# Altium footprint library Custom_Footprints.PcbLib: 14 footprints
Each footprint in its own frame and in the unit in brackets; x right, y up, seen from the top. Pads: shape width x height; smd on the part's side, far side on the other; paste and mask are expansions set on the pad; w line width, h text height; cw(c..) or ccw(c..) is an arc to the next point about the centre after c.
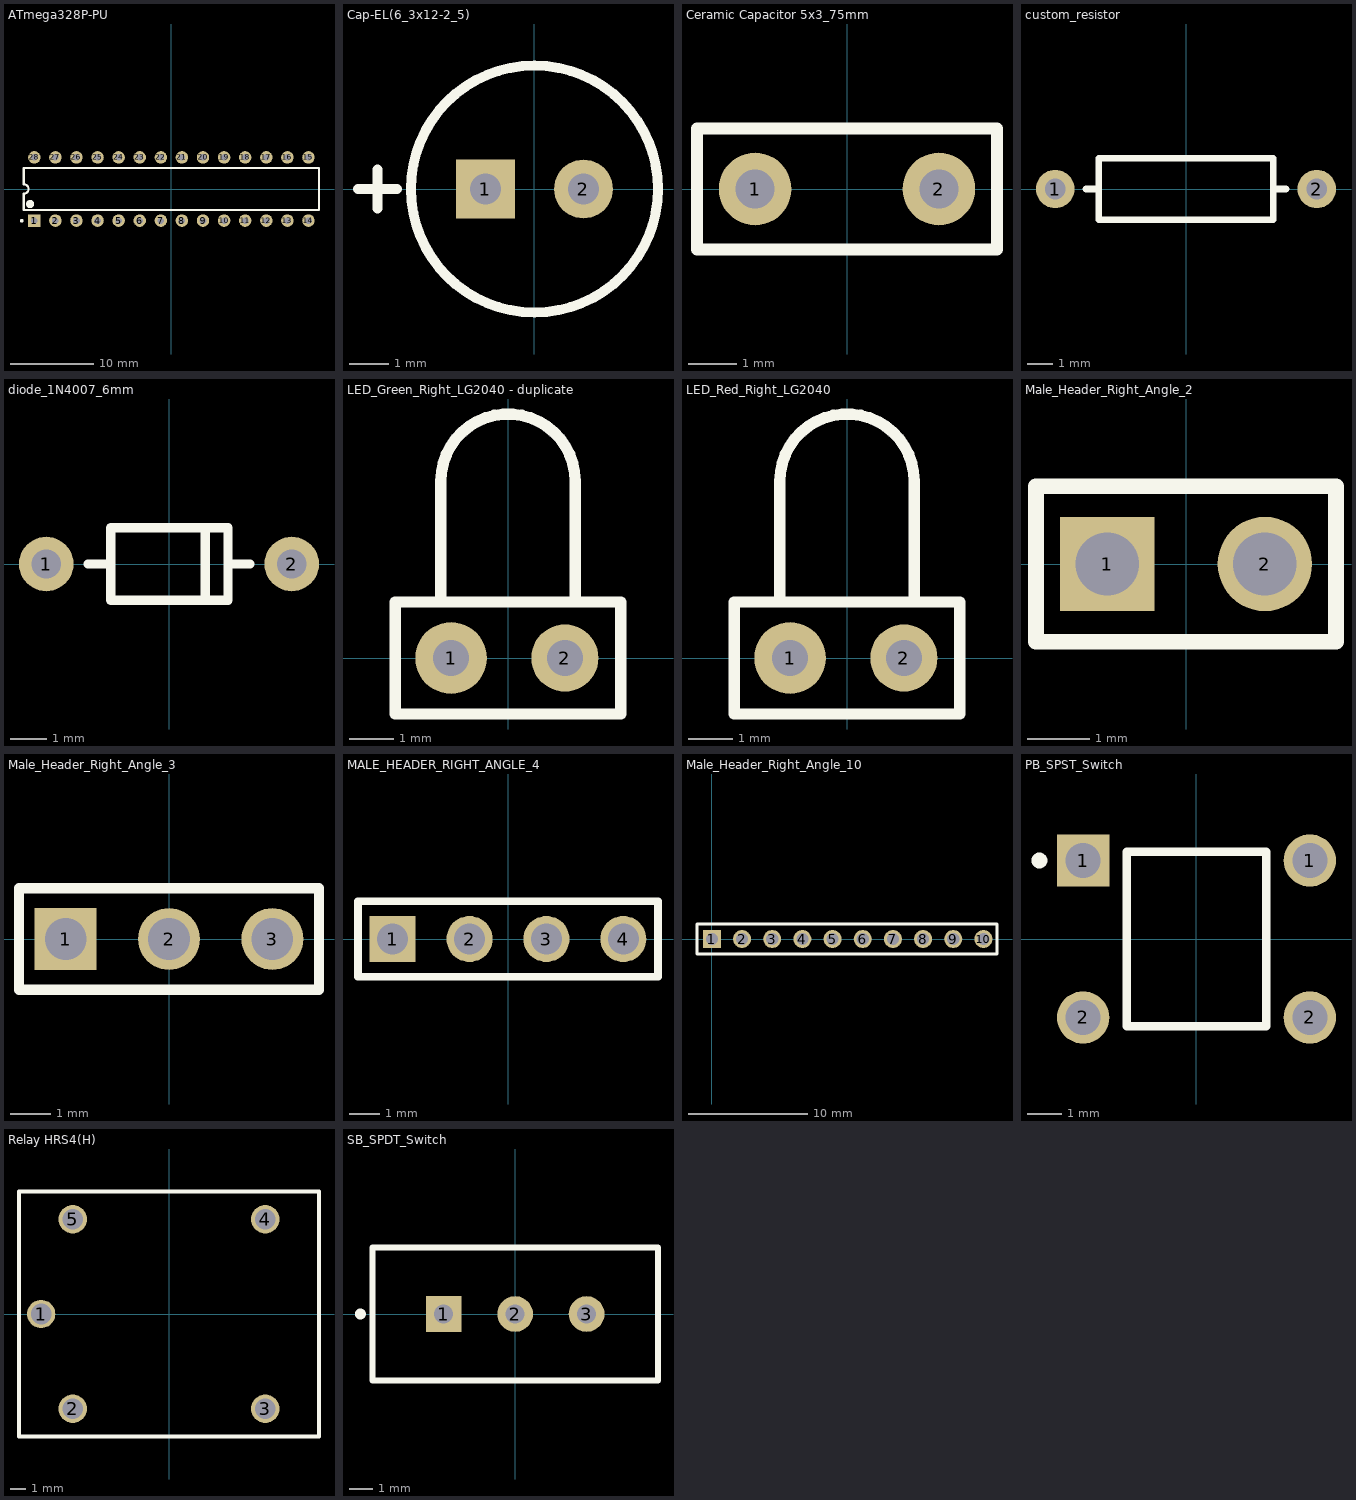
[diagram p0: the footprints below, top view; thin cyan lines are the x and y axes]

## ATmega328P-PU [mm]
pads (28):
  rect 1.5x1.5 hole 0.8: 1(-16.51,-3.81)
  round 1.5 hole 0.8: 2(-13.97,-3.81) 3(-11.43,-3.81) 4(-8.89,-3.81) 5(-6.35,-3.81) 6(-3.81,-3.81) 7(-1.27,-3.81) 8(1.27,-3.81) 9(3.81,-3.81) 10(6.35,-3.81) 11(8.89,-3.81) 12(11.43,-3.81) 13(13.97,-3.81) 14(16.51,-3.81) 15(16.51,3.81) 16(13.97,3.81) 17(11.43,3.81) 18(8.89,3.81) 19(6.35,3.81) 20(3.81,3.81) 21(1.27,3.81) 22(-1.27,3.81) 23(-3.81,3.81) 24(-6.35,3.81) 25(-8.89,3.81) 26(-11.43,3.81) 27(-13.97,3.81) 28(-16.51,3.81)
Top Overlay:
  circle w0.254: c-18.01,-3.81 r0.1
  circle w0.254: c-17.01,-1.81 r0.1
  circle w0.254: c-17.01,-1.81 r0.2
  circle w0.254: c-17.01,-1.81 r0.361
  lines w0.254: -17.78,-0.635 -17.78,-1.27 -17.78,-2.54 17.78,-2.54 17.78,2.54 -17.78,2.54 -17.78,1.27 -17.78,0.635 ; -17.78,-0.57 ccw(c-17.78,0) -17.78,0.57
3D body "Atmega328.STEP": height 7.98, standoff 0, extent -17.8,-5.1 17.8,5.1

## Cap-EL(6_3x12-2_5) [mm]
pads (2):
  rect 1.5x1.5 hole 0.8: 1(-1.25,0)
  round 1.5 hole 0.8: 2(1.25,0)
Top Overlay:
  circle w0.254: c0,0 r3.15
  lines w0.254: -4.5,0 -3.5,0 ; -4,-0.5 -4,0.5
3D body "User Library-Cap-EL(6_3x12-2_5).STEP": height 12, standoff -3.2, extent -3.15,-3.15 3.152,3.15

## Ceramic Capacitor 5x3_75mm [mm]
pads (2):
  round 1.5 hole 0.8: 1(-1.9,0) 2(1.9,0)
Top Overlay:
  lines w0.254: -3.1,-1.25 -3.1,1.25 3.1,1.25 3.1,-1.25 -3.1,-1.25
3D body "User Library-Ceramic Capacitor 5x3_75mm.STEP": height 6.86, standoff -2.1, extent -2.459,-1 2.458,1

## custom_resistor [mm]
pads (2):
  round 1.5 hole 0.8: 1(-5.1,0) 2(5.1,0)
Top Overlay:
  lines w0.254: -3.9,0 -3.4,0 ; 3.4,0 3.9,0 ; -3.4,-1.2 -3.4,1.2 3.4,1.2 3.4,-1.2 -3.4,-1.2
3D body "SW3dPS-RESISTOR, 0.25 W, 0.4 IN LEAD PITCH.STEP": height 2.92, standoff -2.56, extent -5.385,-1.156 5.385,1.156

## diode_1N4007_6mm [mm]
pads (2):
  round 1.5 hole 0.8: 1(-3.375,0) 2(3.375,0)
Top Overlay:
  lines w0.254: -2.231,0 -1.6,0 ; 1,-1 1,1 ; 1.625,0 2.231,0 ; -1.6,-1 1.625,-1 1.625,1 -1.6,1 -1.6,-1
3D body "User Library-diode6mm.STEP": height 2, standoff -3, extent -3.65,-1 3.65,1.016

## LED_Green_Right_LG2040 - duplicate [mm]
pads (2):
  round 1.6 hole 0.8: 1(-1.27,0)
  round 1.5 hole 0.8: 2(1.27,0)
Top Overlay:
  lines w0.254: -1.5,1.25 -1.5,3.95 cw(c0,3.95) 1.5,3.95 1.5,1.25 ; -2.52,-1.25 -2.52,1.25 2.52,1.25 2.52,-1.25 -2.52,-1.25
3D body "User Library-LG2040_right angle.STEP": height 5, standoff -4, extent -1.97,-0.295 1.55,10.155

## LED_Red_Right_LG2040 [mm]
pads (2):
  round 1.6 hole 0.8: 1(-1.27,0)
  round 1.5 hole 0.8: 2(1.27,0)
Top Overlay:
  lines w0.254: -1.5,1.25 -1.5,3.95 cw(c0,3.95) 1.5,3.95 1.5,1.25 ; -2.52,-1.25 -2.52,1.25 2.52,1.25 2.52,-1.25 -2.52,-1.25
3D body "User Library-LH2040_right angle.STEP": height 5, standoff -4, extent -2.02,-0.29 1.5,10.16

## Male_Header_Right_Angle_2 [mm]
pads (2):
  rect 1.52x1.52 hole 1.02: 1(-1.27,0)
  round 1.52 hole 1.02: 2(1.27,0)
Top Overlay:
  lines w0.254: -2.414,-1.25 -2.414,1.25 2.413,1.25 ; -2.413,-1.25 2.411,-1.25 2.413,-1.25 2.414,1.25
3D body "User Library-Header_Male_RA_Low_2Pin.STEP": height 2.51, standoff -3, extent -2.54,-0.32 2.54,9.81

## Male_Header_Right_Angle_3 [mm]
pads (3):
  rect 1.52x1.52 hole 1.02: 1(-2.54,0)
  round 1.52 hole 1.02: 2(0,0) 3(2.54,0)
Top Overlay:
  lines w0.254: -3.684,-1.25 3.684,-1.25 3.684,1.25 -3.684,1.25 -3.684,-1.25
3D body "User Library-Header_Male_RA_Low_3Pin.STEP": height 2.51, standoff -3, extent -3.81,-0.32 3.81,9.81

## MALE_HEADER_RIGHT_ANGLE_4 [mm]
pads (4):
  rect 1.52x1.52 hole 1.02: 1(-3.81,0)
  round 1.52 hole 1.02: 2(-1.27,0) 3(1.27,0) 4(3.81,0)
Top Overlay:
  lines w0.254: -4.954,-1.25 4.954,-1.25 4.954,1.25 -4.954,1.25 -4.954,-1.25
3D body "User Library-Header_Male_RA_Low_4Pin.STEP": height 2.51, standoff -3, extent -5.08,-0.32 5.08,9.81

## Male_Header_Right_Angle_10 [mm]
pads (10):
  rect 1.52x1.52 hole 1.02: 1(0,0)
  round 1.52 hole 1.02: 2(2.54,0) 3(5.08,0) 4(7.62,0) 5(10.16,0) 6(12.7,0) 7(15.24,0) 8(17.78,0) 9(20.32,0) 10(22.86,0)
Top Overlay:
  lines w0.254: -1.25,-1.25 24,-1.25 24,1.25 -1.25,1.25 -1.25,-1.25
3D body: height 1.57, standoff 0.93, extent 22.54,4.04 23.18,10.04
3D body: height 2.25, standoff 0.25, extent 21.59,2 24.13,4.04
3D body: height 2.5, standoff 2.25, extent 21.59,1.5 24.13,4.04
3D body: height 0.25, standoff 0, extent 21.59,1.5 24.13,4.04
3D body: height 1.57, standoff 0.93, extent 20,4.04 20.64,10.04
3D body: height 2.25, standoff 0.25, extent 19.05,2 21.59,4.04
3D body: height 2.5, standoff 2.25, extent 19.05,1.5 21.59,4.04
3D body: height 0.25, standoff 0, extent 19.05,1.5 21.59,4.04
3D body: height 1.57, standoff 0.93, extent 17.46,4.04 18.1,10.04
3D body: height 2.25, standoff 0.25, extent 16.51,2 19.05,4.04
3D body: height 2.5, standoff 2.25, extent 16.51,1.5 19.05,4.04
3D body: height 0.25, standoff 0, extent 16.51,1.5 19.05,4.04
3D body: height 1.57, standoff 0.93, extent 14.92,4.04 15.56,10.04
3D body: height 2.25, standoff 0.25, extent 13.97,2 16.51,4.04
3D body: height 2.5, standoff 2.25, extent 13.97,1.5 16.51,4.04
3D body: height 0.25, standoff 0, extent 13.97,1.5 16.51,4.04
3D body: height 1.57, standoff 0.93, extent 12.38,4.04 13.02,10.04
3D body: height 2.25, standoff 0.25, extent 11.43,2 13.97,4.04
3D body: height 2.5, standoff 2.25, extent 11.43,1.5 13.97,4.04
3D body: height 0.25, standoff 0, extent 11.43,1.5 13.97,4.04
3D body: height 1.57, standoff 0.93, extent 9.84,4.04 10.48,10.04
3D body: height 2.25, standoff 0.25, extent 8.89,2 11.43,4.04
3D body: height 2.5, standoff 2.25, extent 8.89,1.5 11.43,4.04
3D body: height 0.25, standoff 0, extent 8.89,1.5 11.43,4.04
3D body: height 1.57, standoff 0.93, extent 7.3,4.04 7.94,10.04
3D body: height 2.25, standoff 0.25, extent 6.35,2 8.89,4.04
3D body: height 2.5, standoff 2.25, extent 6.35,1.5 8.89,4.04
3D body: height 0.25, standoff 0, extent 6.35,1.5 8.89,4.04
3D body: height 1.57, standoff 0.93, extent 4.76,4.04 5.4,10.04
3D body: height 2.25, standoff 0.25, extent 3.81,2 6.35,4.04
3D body: height 2.5, standoff 2.25, extent 3.81,1.5 6.35,4.04
3D body: height 0.25, standoff 0, extent 3.81,1.5 6.35,4.04
3D body: height 1.57, standoff 0.93, extent 2.22,4.04 2.86,10.04
3D body: height 2.25, standoff 0.25, extent 1.27,2 3.81,4.04
3D body: height 2.5, standoff 2.25, extent 1.27,1.5 3.81,4.04
3D body: height 0.25, standoff 0, extent 1.27,1.5 3.81,4.04
3D body: height 0.25, standoff 0, extent -1.27,1.5 1.27,4.04
3D body: height 2.5, standoff 2.25, extent -1.27,1.5 1.27,4.04
3D body: height 2.25, standoff 0.25, extent -1.27,2 1.27,4.04
3D body: height 1.57, standoff 0.93, extent -0.32,4.04 0.32,10.04

## PB_SPST_Switch [mm]
pads (4):
  rect 1.5x1.5 hole 1: 1(-3.25,2.25)
  round 1.5 hole 1: 1(3.25,2.25) 2(-3.25,-2.25) 2(3.25,-2.25)
Top Overlay:
  circle w0.254: c-4.5,2.25 r0.1
  lines w0.254: -2,-2.5 2,-2.5 2,2.5 -2,2.5 -2,-2.5
3D body "User Library-Pushbutton-3.STEP": height 7.41, standoff -3.49, extent -4.106,-3 4.106,3

## Relay HRS4(H) [mm]
pads (5):
  round 1.8 hole 1.3: 1(-8.1,0) 2(-6.1,-6) 3(6.1,-6) 4(6.1,6) 5(-6.1,6)
Top Overlay:
  lines w0.254: -9.5,-7.75 -9.5,7.75 9.5,7.75 9.5,-7.75 -9.5,-7.75
3D body "nff-NF8 3D 1CO PDF.STEP": height 15.3, standoff -3.9, extent -9.5,-7.75 9.5,7.75

## SB_SPDT_Switch [mm]
pads (3):
  rect 1.5x1.5 hole 0.8: 1(-3,0)
  round 1.5 hole 0.8: 2(0,0) 3(3,0)
Top Overlay:
  circle w0.254: c-6.5,0 r0.1
  lines w0.254: -6,-2.8 6,-2.8 6,2.8 0,2.8 -6,2.8 -6,-2.8
3D body: height 3.5, standoff 0.3, extent -6,-2.8 6,2.8
3D body: height 0.3, standoff 0, extent -3.25,-2.8 -1.75,-2.5
3D body: height 0.3, standoff 0, extent 1.75,-2.8 3.25,-2.5
3D body: height 0.3, standoff 0, extent 1.75,2.5 3.25,2.8
3D body: height 0.3, standoff 0, extent -3.25,2.5 -1.75,2.8
3D body: height 0.3, standoff 0, extent -6.025,-2.775 6.025,2.775
3D body: height 3.5, standoff 3.5, extent -3.1,-1.6 3.1,1.6
3D body: height 7, standoff 3.5, extent -3,-1.5 -0.25,1.5
3D body: height 7, standoff 7, extent -2.9,-1.5 -2.8,1.5
3D body: height 7, standoff 7, extent -2.7,-1.5 -2.6,1.5
3D body: height 7, standoff 7, extent -2.5,-1.5 -2.4,1.5
3D body: height 7, standoff 7, extent -2.3,-1.5 -2.2,1.5
3D body: height 7, standoff 7, extent -2.1,-1.5 -2,1.5
3D body: height 7, standoff 7, extent -1.9,-1.5 -1.8,1.5
3D body: height 7, standoff 7, extent -1.7,-1.5 -1.6,1.5
3D body: height 7, standoff 7, extent -1.5,-1.5 -1.4,1.5
3D body: height 7, standoff 7, extent -1.3,-1.5 -1.2,1.5
3D body: height 7, standoff 7, extent -1.1,-1.5 -1,1.5
3D body: height 7, standoff 7, extent -0.9,-1.5 -0.8,1.5
3D body: height 7, standoff 7, extent -0.7,-1.5 -0.6,1.5
3D body: height 7, standoff 7, extent -0.5,-1.5 -0.4,1.5